# Altium footprint library Footprint.PcbLib: 139 footprints (part 6 of 9)
Each footprint in its own frame and in the unit in brackets; x right, y up, seen from the top. Pads: shape width x height; smd on the part's side, far side on the other; paste and mask are expansions set on the pad; w line width, h text height; cw(c..) or ccw(c..) is an arc to the next point about the centre after c.
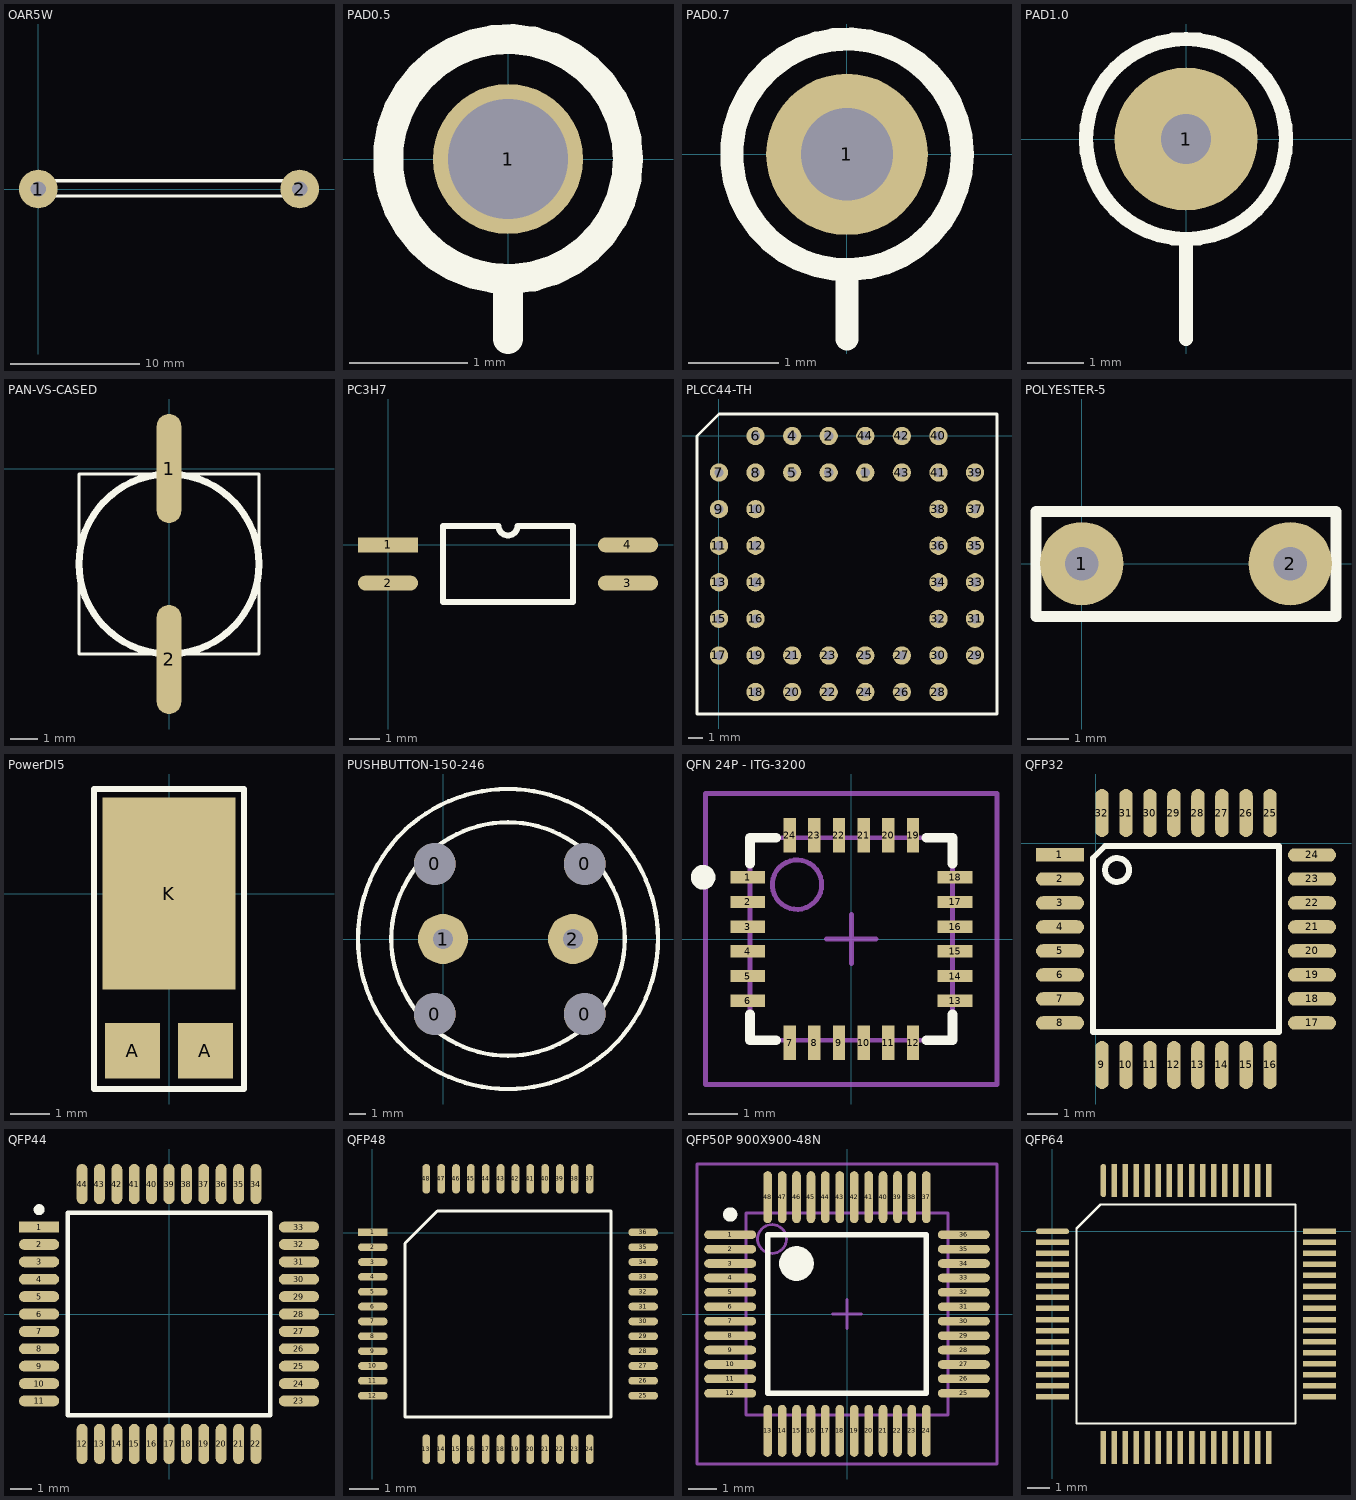
[diagram p5: the footprints below, top view; thin cyan lines are the x and y axes]

## OAR5W [mm]
height 25.4
pads (2):
  round 3 hole 1.2: 1(0,0) 2(20.32,0)
TopOverlay:
  lines w0.254: -0.65,-0.5 -0.6,-0.55 20.95,-0.55 20.95,0.65 -0.65,0.65 -0.65,-0.5

## PAD0.5 [mil]
pads (1):
  round 50 hole 40: 1(0,0)
TopOverlay:
  circle w10: c0,0 r40
  lines w10: 0,-60 0,-45

## PAD0.7 [mil]
pads (1):
  round 70 hole 40: 1(0,0)
TopOverlay:
  circle w10: c0,0 r50
  lines w10: 0,-80 0,-55

## PAD1.0 [mil]
pads (1):
  round 100 hole 35: 1(0,0)
TopOverlay:
  circle w10: c0,0 r70
  lines w10: 0,-140 0,-70

## PAN-VS-CASED [mm]
pads (2):
  oval 0.9x4 smd: 1(0,0) 2(0,-7)
TopOverlay:
  circle w0.254: c0,-3.5 r3.3
  lines w0.127: -3.3,-6.8 -3.3,-0.2 3.3,-0.2 3.3,-6.8 -3.3,-6.8

## PC3H7 [mm]
pads (4):
  rect 2x0.5 smd: 1(0,0)
  oval 2x0.5 smd: 2(0,-1.27) 3(8,-1.27) 4(8,0)
TopOverlay:
  lines w0.2: 1.835,-1.905 6.165,-1.905 6.165,0.635 4.317,0.635 cw(c4,0.635) 3.682,0.635 1.835,0.635 1.835,-1.905

## PLCC44-TH [mm]
pads (44):
  round 1.27 hole 0.635: 1(10.16,-2.54) 2(7.62,0) 3(7.62,-2.54) 4(5.08,0) 5(5.08,-2.54) 6(2.54,0) 7(0,-2.54) 8(2.54,-2.54) 9(0,-5.08) 10(2.54,-5.08) 11(0,-7.62) 12(2.54,-7.62) 13(0,-10.16) 14(2.54,-10.16) 15(0,-12.7) 16(2.54,-12.7) 17(0,-15.24) 18(2.54,-17.78) 19(2.54,-15.24) 20(5.08,-17.78) 21(5.08,-15.24) 22(7.62,-17.78) 23(7.62,-15.24) 24(10.16,-17.78) 25(10.16,-15.24) 26(12.7,-17.78) 27(12.7,-15.24) 28(15.24,-17.78) 29(17.78,-15.24) 30(15.24,-15.24) 31(17.78,-12.7) 32(15.24,-12.7) 33(17.78,-10.16) 34(15.24,-10.16) 35(17.78,-7.62) 36(15.24,-7.62) 37(17.78,-5.08) 38(15.24,-5.08) 39(17.78,-2.54) 40(15.24,0) 41(15.24,-2.54) 42(12.7,0) 43(12.7,-2.54) 44(10.16,0)
TopOverlay:
  lines w0.203: -1.524,-19.304 19.304,-19.304 19.304,1.524 0,1.524 -1.524,0 -1.524,-19.304

## POLYESTER-5 [mm]
pads (2):
  round 2 hole 0.8: 1(0,0) 2(5,0)
TopOverlay:
  lines w0.254: -1.1,-1.27 6.1,-1.27 6.1,1.25 -1.1,1.25 -1.1,-1.27

## PowerDI5 [mm] "For Diodes Inc PDS3200 or PDU420"
pads (3):
  rect 1.39x1.4 smd: A(-0.92,-3.982) A(0.92,-3.982)
  rect 3.36x4.86 smd: K(0,0)
TopOverlay:
  lines w0.152: -1.9,-4.95 1.9,-4.95 1.9,2.65 -1.9,2.65 -1.9,-4.95

## PUSHBUTTON-150-246 [mm]
pads (6):
  round 2.5 hole 2.5: 0(-0.5,-4.5) 0(-0.5,4.5) 0(8.5,-4.5) 0(8.5,4.5)
  round 3 hole 1.2: 1(0,0) 2(7.8,0)
TopOverlay:
  circle w0.254: c3.9,0 r7
  circle w0.254: c3.9,0 r9

## QFN 24P - ITG-3200 [mm]
pads (24):
  rect 0.7x0.25 smd: 1(-2.1,1.25) 2(-2.1,0.75) 3(-2.1,0.25) 4(-2.1,-0.25) 5(-2.1,-0.75) 6(-2.1,-1.25) 13(2.1,-1.25) 14(2.1,-0.75) 15(2.1,-0.25) 16(2.1,0.25) 17(2.1,0.75) 18(2.1,1.25)
  rect 0.25x0.7 smd: 7(-1.25,-2.1) 8(-0.75,-2.1) 9(-0.25,-2.1) 10(0.25,-2.1) 11(0.75,-2.1) 12(1.25,-2.1) 19(1.25,2.1) 20(0.75,2.1) 21(0.25,2.1) 22(-0.25,2.1) 23(-0.75,2.1) 24(-1.25,2.1)
TopOverlay:
  circle w0.25: c-3,1.25 r0.125
  lines w0.2: -2.05,-1.525 -2.05,-2.05 -1.525,-2.05 ; -2.05,1.525 -2.05,2.05 -1.525,2.05 ; 1.525,-2.05 2.05,-2.05 2.05,-1.525 ; 1.525,2.05 2.05,2.05 2.05,1.525
Mechanical13:
  circle w0.1: c-1.1,1.1 r0.5
  lines w0.1: -2.05,-2.05 -2.05,2.05 2.05,2.05 2.05,-2.05 -2.05,-2.05
Mechanical15:
  lines w0.1: -0.5,0 0.5,0 ; 0,-0.5 0,0.5 ; -2.95,-2.95 -2.95,2.95 2.95,2.95 2.95,-2.95 -2.95,-2.95
3D body: height 0.95, standoff 0, extent -2.05,-2.05 2.05,2.05

## QFP32 [mm]
pads (32):
  rect 1.6x0.45 smd: 1(-1.184,-0.384)
  oval 1.6x0.45 smd: 2(-1.184,-1.184) 3(-1.184,-1.984) 4(-1.184,-2.784) 5(-1.184,-3.584) 6(-1.184,-4.384) 7(-1.184,-5.184) 8(-1.184,-5.984) 17(7.216,-5.984) 18(7.216,-5.184) 19(7.216,-4.384) 20(7.216,-3.584) 21(7.216,-2.784) 22(7.216,-1.984) 23(7.216,-1.184) 24(7.216,-0.384)
  oval 0.45x1.6 smd: 9(0.216,-7.384) 10(1.016,-7.384) 11(1.816,-7.384) 12(2.616,-7.384) 13(3.416,-7.384) 14(4.216,-7.384) 15(5.016,-7.384) 16(5.816,-7.384) 25(5.816,1.016) 26(5.016,1.016) 27(4.216,1.016) 28(3.416,1.016) 29(2.616,1.016) 30(1.816,1.016) 31(1.016,1.016) 32(0.216,1.016)
TopOverlay:
  circle w0.2: c0.716,-0.884 r0.4
  lines w0.2: -0.084,-6.284 -0.084,-0.484 0.316,-0.084 6.116,-0.084 6.116,-6.284 -0.084,-6.284

## QFP44 [mm]
pads (44):
  rect 1.85x0.5 smd: 1(-5.975,4)
  oval 1.85x0.5 smd: 2(-5.975,3.2) 3(-5.975,2.4) 4(-5.975,1.6) 5(-5.975,0.8) 6(-5.975,0) 7(-5.975,-0.8) 8(-5.975,-1.6) 9(-5.975,-2.4) 10(-5.975,-3.2) 11(-5.975,-4) 23(5.975,-4) 24(5.975,-3.2) 25(5.975,-2.4) 26(5.975,-1.6) 27(5.975,-0.8) 28(5.975,0) 29(5.975,0.8) 30(5.975,1.6) 31(5.975,2.4) 32(5.975,3.2) 33(5.975,4)
  oval 0.5x1.85 smd: 12(-4,-5.975) 13(-3.2,-5.975) 14(-2.4,-5.975) 15(-1.6,-5.975) 16(-0.8,-5.975) 17(0,-5.975) 18(0.8,-5.975) 19(1.6,-5.975) 20(2.4,-5.975) 21(3.2,-5.975) 22(4,-5.975) 34(4,5.975) 35(3.2,5.975) 36(2.4,5.975) 37(1.6,5.975) 38(0.8,5.975) 39(0,5.975) 40(-0.8,5.975) 41(-1.6,5.975) 42(-2.4,5.975) 43(-3.2,5.975) 44(-4,5.975)
TopOverlay:
  circle w0.25: c-5.975,4.8 r0.125
  lines w0.2: -4.65,-4.65 -4.65,4.65 4.65,4.65 4.65,-4.65 -4.65,-4.65

## QFP48 [mm]
pads (48):
  rect 1x0.26 smd: 1(0.013,0.01)
  oval 1x0.26 smd: 2(0.013,-0.49) 3(0.013,-0.99) 4(0.013,-1.49) 5(0.013,-1.99) 6(0.013,-2.49) 7(0.013,-2.99) 8(0.013,-3.49) 9(0.013,-3.99) 10(0.013,-4.49) 11(0.013,-4.99) 12(0.013,-5.49) 25(9.113,-5.49) 26(9.113,-4.99) 27(9.113,-4.49) 28(9.113,-3.99) 29(9.113,-3.49) 30(9.113,-2.99) 31(9.113,-2.49) 32(9.113,-1.99) 33(9.113,-1.49) 34(9.113,-0.99) 35(9.113,-0.49) 36(9.113,0.01)
  oval 0.26x1 smd: 13(1.813,-7.29) 14(2.313,-7.29) 15(2.813,-7.29) 16(3.313,-7.29) 17(3.813,-7.29) 18(4.313,-7.29) 19(4.813,-7.29) 20(5.313,-7.29) 21(5.813,-7.29) 22(6.313,-7.29) 23(6.813,-7.29) 24(7.313,-7.29) 37(7.313,1.81) 38(6.813,1.81) 39(6.313,1.81) 40(5.813,1.81) 41(5.313,1.81) 42(4.813,1.81) 43(4.313,1.81) 44(3.813,1.81) 45(3.313,1.81) 46(2.813,1.81) 47(2.313,1.81) 48(1.813,1.81)
TopOverlay:
  lines w0.1: 1.098,-6.205 1.098,-0.36 2.183,0.725 8.028,0.725 8.028,-6.205 1.098,-6.205

## QFP50P 900X900-48N [mm]
pads (48):
  oval 1.8x0.3 smd: 1(-4.05,2.75) 2(-4.05,2.25) 3(-4.05,1.75) 4(-4.05,1.25) 5(-4.05,0.75) 6(-4.05,0.25) 7(-4.05,-0.25) 8(-4.05,-0.75) 9(-4.05,-1.25) 10(-4.05,-1.75) 11(-4.05,-2.25) 12(-4.05,-2.75) 25(4.05,-2.75) 26(4.05,-2.25) 27(4.05,-1.75) 28(4.05,-1.25) 29(4.05,-0.75) 30(4.05,-0.25) 31(4.05,0.25) 32(4.05,0.75) 33(4.05,1.25) 34(4.05,1.75) 35(4.05,2.25) 36(4.05,2.75)
  oval 0.3x1.8 smd: 13(-2.75,-4.05) 14(-2.25,-4.05) 15(-1.75,-4.05) 16(-1.25,-4.05) 17(-0.75,-4.05) 18(-0.25,-4.05) 19(0.25,-4.05) 20(0.75,-4.05) 21(1.25,-4.05) 22(1.75,-4.05) 23(2.25,-4.05) 24(2.75,-4.05) 37(2.75,4.05) 38(2.25,4.05) 39(1.75,4.05) 40(1.25,4.05) 41(0.75,4.05) 42(0.25,4.05) 43(-0.25,4.05) 44(-0.75,4.05) 45(-1.25,4.05) 46(-1.75,4.05) 47(-2.25,4.05) 48(-2.75,4.05)
TopOverlay:
  circle w0.25: c-4.05,3.45 r0.125
  circle w0.6: c-1.75,1.75 r0.3
  lines w0.2: -2.75,-2.75 -2.75,2.75 2.75,2.75 2.75,-2.75 -2.75,-2.75
Mechanical13:
  circle w0.1: c-2.6,2.6 r0.5
  lines w0.1: -3.5,-3.5 -3.5,3.5 3.5,3.5 3.5,-3.5 -3.5,-3.5
Mechanical15:
  lines w0.1: -0.5,0 0.5,0 ; 0,-0.5 0,0.5 ; -5.2,-5.2 -5.2,5.2 5.2,5.2 5.2,-5.2 -5.2,-5.2
3D body: height 1.6, standoff 0, extent -3.5,-3.5 3.5,3.5

## QFP64 [mm]
pads (64):
  oval 1.5x0.25 smd: 1(0.008,-0.005)
  rect 1.5x0.25 smd: 2(0.008,-0.505) 3(0.008,-1.005) 4(0.008,-1.505) 5(0.008,-2.005) 6(0.008,-2.505) 7(0.008,-3.005) 8(0.008,-3.505) 9(0.008,-4.005) 10(0.008,-4.505) 11(0.008,-5.005) 12(0.008,-5.505) 13(0.008,-6.005) 14(0.008,-6.505) 15(0.008,-7.005) 16(0.008,-7.505) 33(12.108,-7.505) 34(12.108,-7.005) 35(12.108,-6.505) 36(12.108,-6.005) 37(12.108,-5.505) 38(12.108,-5.005) 39(12.108,-4.505) 40(12.108,-4.005) 41(12.108,-3.505) 42(12.108,-3.005) 43(12.108,-2.505) 44(12.108,-2.005) 45(12.108,-1.505) 46(12.108,-1.005) 47(12.108,-0.505) 48(12.108,-0.005)
  rect 0.25x1.5 smd: 17(2.308,-9.805) 18(2.808,-9.805) 19(3.308,-9.805) 20(3.808,-9.805) 21(4.308,-9.805) 22(4.808,-9.805) 23(5.308,-9.805) 24(5.808,-9.805) 25(6.308,-9.805) 26(6.808,-9.805) 27(7.308,-9.805) 28(7.808,-9.805) 29(8.308,-9.805) 30(8.808,-9.805) 31(9.308,-9.805) 32(9.808,-9.805) 49(9.808,2.295) 50(9.308,2.295) 51(8.808,2.295) 52(8.308,2.295) 53(7.808,2.295) 54(7.308,2.295) 55(6.808,2.295) 56(6.308,2.295) 57(5.808,2.295) 58(5.308,2.295) 59(4.808,2.295) 60(4.308,2.295) 61(3.808,2.295) 62(3.308,2.295) 63(2.808,2.295)
  oval 0.25x1.5 smd: 64(2.308,2.295)
TopOverlay:
  lines w0.1: 1.093,-8.72 1.093,0.125 2.178,1.21 11.023,1.21 11.023,-8.72 1.093,-8.72